# Altium schematic symbol library BCM857.SchLib: 1 symbol
Pins are listed as number, name and electrical type; pins without a type are passive.

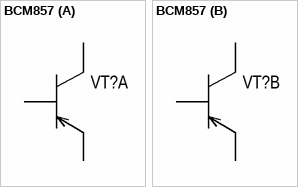
[diagram p0: symbol BCM857]

## BCM857
designator VT?  (value not drawn)
part A pins: 1, 2, 6
part B pins: 3, 4, 5